# EAGLE library part FS6377 (library wg_library)
Programmable 3-PLL Clock Generator IC Source:
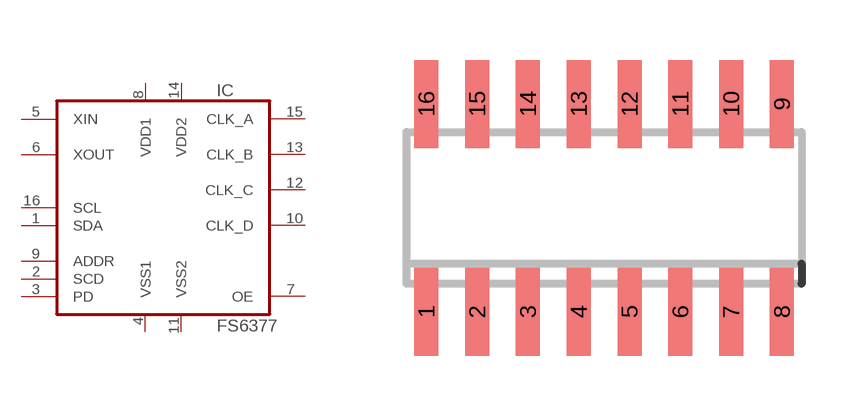
[diagram p4: symbol with the pads of SO16; footprint SO16]

Designator prefix IC

## FS6377  [SO16]
1  SDA
2  SCD  in
3  PD  in
4  VSS1  pwr
5  XIN  in
6  XOUT  out
7  OE  in
8  VDD1  pwr
9  ADDR  in
10  CLK_D  out
11  VSS2  pwr
12  CLK_C  out
13  CLK_B  out
14  VDD2  pwr
15  CLK_A  out
16  SCL  in

## Footprint SO16 (pad centres in mm)
smd 0.6 x 2.2: 1 -4.445,-2.6; 2 -3.175,-2.6; 3 -1.905,-2.6; 4 -0.635,-2.6; 5 0.635,-2.6; 6 1.905,-2.6; 7 3.175,-2.6; 8 4.445,-2.6; 9 4.445,2.6; 10 3.175,2.6; 11 1.905,2.6; 12 0.635,2.6; 13 -0.635,2.6; 14 -1.905,2.6; 15 -3.175,2.6; 16 -4.445,2.6